# EAGLE library part MICROSD (library airqualityparts)
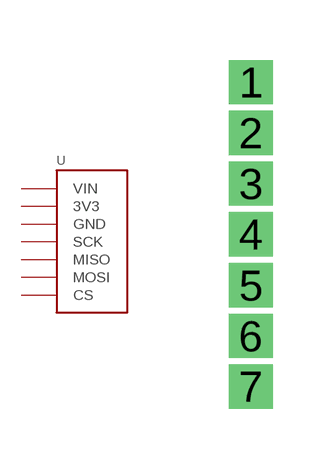
[diagram p2: symbol with the pads of MICROSD; footprint MICROSD]

Designator prefix -

## MICROSD  [MICROSD]
1  3V3
2  CS
3  GND
4  MISO
5  MOSI
6  SCK
7  VIN

## Footprint MICROSD (pad centres in mm)
drill 0.6 square: 1 0,5.08; 2 0,3.81; 3 0,2.54; 4 0,1.27; 5 0,0; 6 0,-1.27; 7 0,-2.54